# EAGLE library part PH_2X05 (library PP_Connectors)
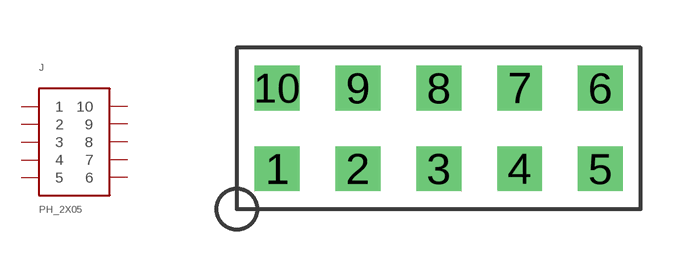
[diagram p10: symbol with the pads of HEADER_02X05_PTH; footprint HEADER_02X05_PTH]

Designator prefix J

## PH_2X05PTH  [HEADER_02X05_PTH]
1  1
2  2
3  3
4  4
5  5
6  6
7  7
8  8
9  9
10  10

## Footprint HEADER_02X05_PTH (pad centres in mm)
drill 0.9 square: 1 -5.08,-1.27; 2 -2.54,-1.27; 3 0,-1.27; 4 2.54,-1.27; 5 5.08,-1.27; 6 5.08,1.27; 7 2.54,1.27; 8 0,1.27; 9 -2.54,1.27; 10 -5.08,1.27